# EAGLE library part 7HW-A (library inductor-toko)
HELICAL FILTER 7MM TOKO 7HW Series
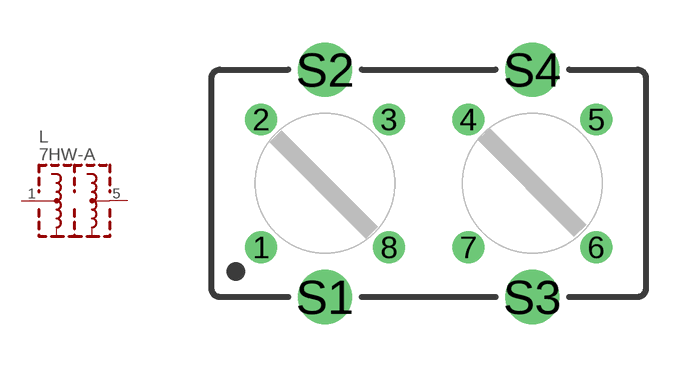
[diagram p6: symbol with the pads of 7HW-A; footprint 7HW-A]

Designator prefix L

## 7HW-A  [7HW-A]
1  IN  pas
4  4  pas
5  OUT  pas
8  8  pas
S1  S1  pas
S2  S2  pas
S3  S3  pas
S4  S4  pas

## Footprint 7HW-A (pad centres in mm)
HELICAL FILTER - TOKO Type 7HW (A) - Double Tuned
drill 0.61: 1 -5.9,-2.25; 2 -5.9,2.25; 3 -1.4,2.25; 4 1.4,2.25; 5 5.9,2.25; 6 5.9,-2.25; 7 1.4,-2.25; 8 -1.4,-2.25
drill 1.27: S1 -3.65,-4; S2 -3.65,4; S3 3.65,-4; S4 3.65,4